# Altium schematic symbol library voltkey_connector_schematic.SchLib: 1 symbol
Pins are listed as number, name and electrical type; pins without a type are passive.

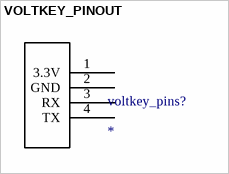
[diagram p0: symbol VOLTKEY_PINOUT]

## VOLTKEY_PINOUT
designator voltkey_pins?
footprint voltkey_footprint
pins: 1 3.3V, 2 GND, 3 RX, 4 TX